# EAGLE library part SN74XXX138 (library MAX9812)
TI's SN74xxx138 3-Line to 8-Line Decoder/DemultiplexerDescription: The HC138 devices are designed to be used in high-performance memory-decoding or datarouting applications requiring very short propagation delay times. In high-performance memory systems, these decoders can be used to minimize the effects of system decoding. When employed with high-speed memories utilizing a fast enable circuit, the delay times of these decoders and the enable time of the memory are usually less than the typical access time of the memory. This means that the effective system delay introduced by the decoders is negligible. Features: Targeted Specifically for High-Speed Memory Decoders and Data-Transmission Systems Wide Operating Voltage Range of 2 V to 6 V Outputs Can Drive Up To 10 LSTTL Loads Low Power Consumption, 80-µA Max ICC Typical tpd = 15 ns ±4-mA Output Drive at 5 V Low Input Current of 1 µA Max Incorporate Three Enable Inputs to SimplifyCascading and/or Data Reception Please send any comments to: messi@users.sourceforge.net
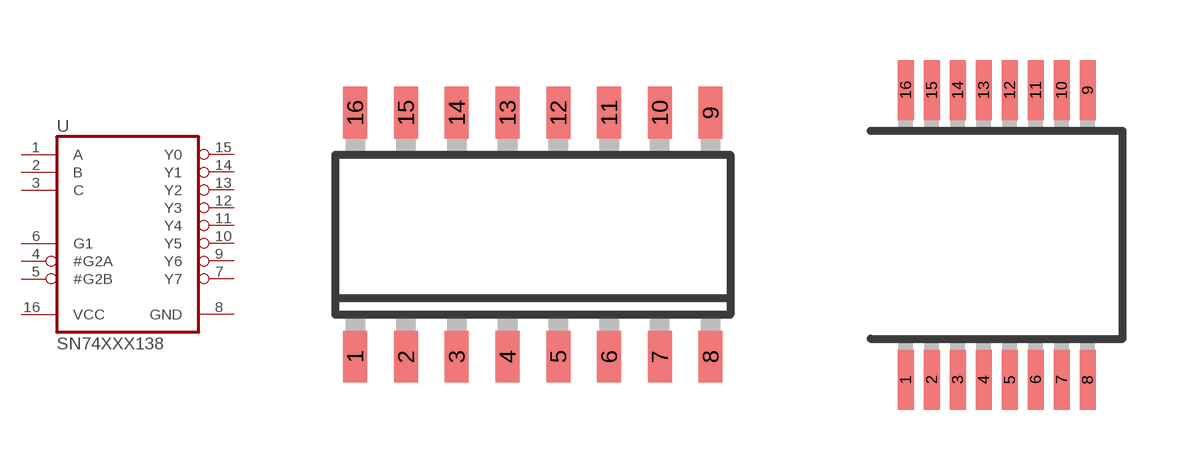
[diagram p89: symbol with the pads of SOIC16N; footprints SOIC16N, SSOP16]

Designator prefix U

## SN74XXX138D  [SOIC16N]
1  A  in
2  B  in
3  C  in
4  #G2A  in
5  #G2B  in
6  G1  in
7  Y7  out
8  GND  pwr
9  Y6  out
10  Y5  out
11  Y4  out
12  Y3  out
13  Y2  out
14  Y1  out
15  Y0  out
16  VCC  pwr

## SN74XXX138DB  [SSOP16]
Pads as for SOIC16N

## SN74XXX138PW  [TSSOP16]
Pads as for SOIC16N

## SN74XXX138-RGY  [QFN-16W]
Pads as for SOIC16N

## Footprint SOIC16N (pad centres in mm)
SMALL OUTLINE INTEGRATED CIRCUIT
smd 0.6 x 1.3: 1 -4.445,-3.05; 2 -3.175,-3.05; 3 -1.905,-3.05; 4 -0.635,-3.05; 5 0.635,-3.05; 6 1.905,-3.05; 7 3.175,-3.05; 8 4.445,-3.05; 9 4.445,3.05; 10 3.175,3.05; 11 1.905,3.05; 12 0.635,3.05; 13 -0.635,3.05; 14 -1.905,3.05; 15 -3.175,3.05; 16 -4.445,3.05

## Footprint SSOP16 (pad centres in mm)
Shrink Small Outline Package package type SS
smd 0.4 x 1.5: 1 -2.275,-3.625; 2 -1.625,-3.625; 3 -0.975,-3.625; 4 -0.325,-3.625; 5 0.325,-3.625; 6 0.975,-3.625; 7 1.625,-3.625; 8 2.275,-3.625; 9 2.275,3.625; 10 1.625,3.625; 11 0.975,3.625; 12 0.325,3.625; 13 -0.325,3.625; 14 -0.975,3.625; 15 -1.625,3.625; 16 -2.275,3.625

## Footprint TSSOP16 (pad centres in mm)
Thin Shrink Small Outline Plastic 16 MAX3223-MAX3243.pdf
smd 0.305 x 0.991: 1 -2.275,-2.918; 2 -1.625,-2.918; 3 -0.975,-2.918; 4 -0.325,-2.918; 5 0.325,-2.918; 6 0.975,-2.918; 7 1.625,-2.918; 8 2.275,-2.918; 9 2.275,2.918; 10 1.625,2.918; 11 0.975,2.918; 12 0.325,2.918; 13 -0.325,2.918; 14 -0.975,2.918; 15 -1.625,2.918; 16 -2.275,2.918

## Footprint QFN-16W (pad centres in mm)
smd 0.35 x 0.55: 1 0.75,-1.9; 8 0.75,1.9; 9 -0.75,1.9; 16 -0.75,-1.9
smd 0.55 x 0.35: 2 1.65,-1.25; 3 1.65,-0.75; 4 1.65,-0.25; 5 1.65,0.25; 6 1.65,0.75; 7 1.65,1.25; 10 -1.65,1.25; 11 -1.65,0.75; 12 -1.65,0.25; 13 -1.65,-0.25; 14 -1.65,-0.75; 15 -1.65,-1.25
smd 2.1 x 2.6: P$1 0,0